# Altium footprint library TerminalBlock_Phoenix.PcbLib: 126 footprints (part 1 of 8)
Each footprint in its own frame and in the unit in brackets; x right, y up, seen from the top. Pads: shape width x height; smd on the part's side, far side on the other; paste and mask are expansions set on the pad; w line width, h text height; cw(c..) or ccw(c..) is an arc to the next point about the centre after c.
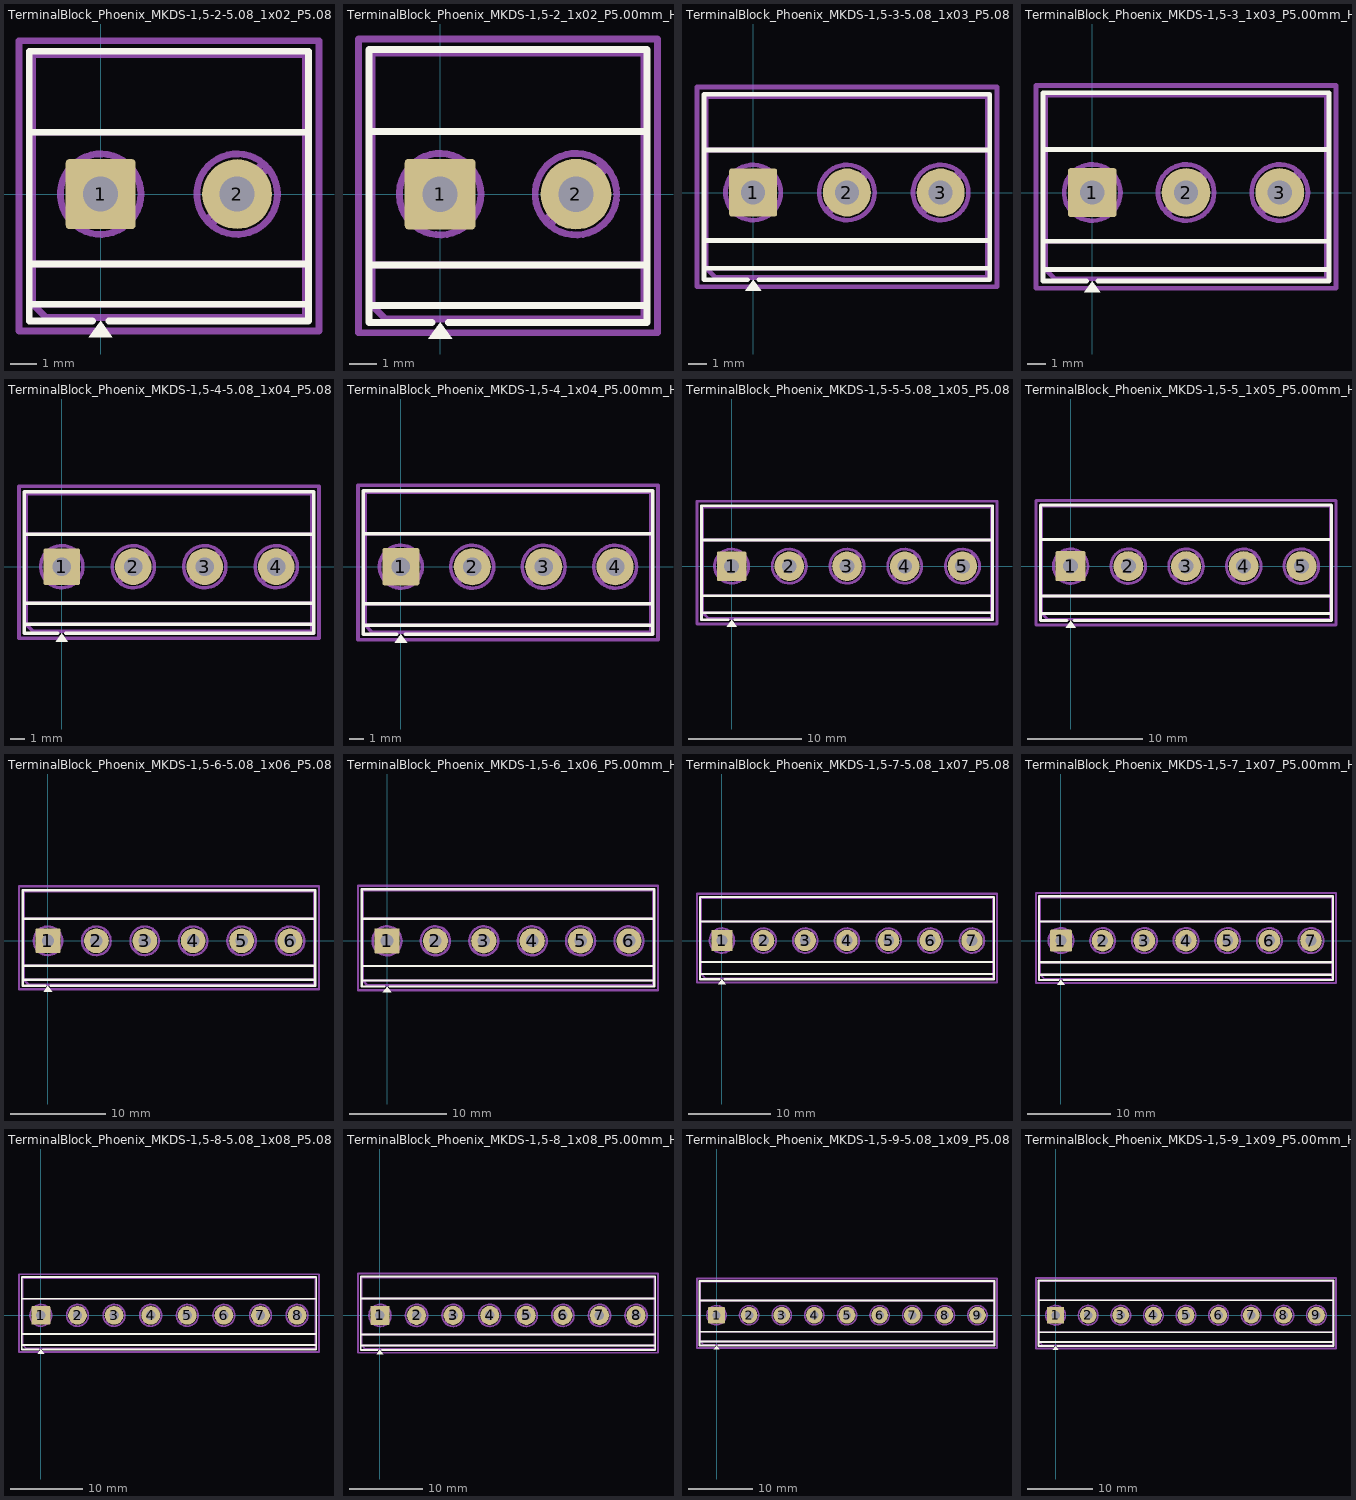
[diagram p0: the footprints below, top view; thin cyan lines are the x and y axes]

## TerminalBlock_Phoenix_MKDS-1,5-2-5.08_1x02_P5.08mm_Horizontal [mm]
pads (2):
  rrect10% 2.6x2.6 hole 1.3: 1(0,0)
  round 2.6 hole 1.3: 2(5.08,0)
F.SilkS:
  region: 0.44,-5.33 -0.44,-5.33 0,-4.72
  lines w0.254: -2.66,-4.1 7.74,-4.1 ; -2.66,-2.6 7.74,-2.6 ; -2.66,2.3 7.74,2.3 ; -0.3,-4.72 -2.66,-4.72 -2.66,5.32 7.74,5.32 7.74,-4.72 0.3,-4.72
F.Fab:
  circle w0.254: c0,0 r1.5
  circle w0.254: c5.08,0 r1.5
  lines w0.254: -2.54,-2.6 7.62,-2.6 ; -2.54,2.3 7.62,2.3 ; -1.138,-0.955 0.955,1.138 ; -0.955,-1.138 1.138,0.955 ; 3.942,-0.955 6.035,1.138 ; 4.125,-1.138 6.218,0.955 ; 7.62,-4.1 -2.54,-4.1 ; -2.54,-4.1 -2.54,5.2 7.62,5.2 7.62,-4.6 -2.04,-4.6 -2.54,-4.1
  text "'.Designator'" at -1.507,-4.04 h1
F.CrtYd:
  lines w0.254: -3.04,-5.1 -3.04,5.71 8.13,5.71 8.13,-5.1 -3.04,-5.1

## TerminalBlock_Phoenix_MKDS-1,5-2_1x02_P5.00mm_Horizontal [mm]
pads (2):
  rrect10% 2.6x2.6 hole 1.3: 1(0,0)
  round 2.6 hole 1.3: 2(5,0)
F.SilkS:
  region: 0.44,-5.33 -0.44,-5.33 0,-4.72
  lines w0.254: -2.62,-4.1 7.62,-4.1 ; -2.62,-2.6 7.62,-2.6 ; -2.62,2.3 7.62,2.3 ; -0.3,-4.72 -2.62,-4.72 -2.62,5.32 7.62,5.32 7.62,-4.72 0.3,-4.72
F.Fab:
  circle w0.254: c0,0 r1.5
  circle w0.254: c5,0 r1.5
  lines w0.254: -2.5,-2.6 7.5,-2.6 ; -2.5,2.3 7.5,2.3 ; -1.138,-0.955 0.955,1.138 ; -0.955,-1.138 1.138,0.955 ; 3.862,-0.955 5.955,1.138 ; 4.045,-1.138 6.138,0.955 ; 7.5,-4.1 -2.5,-4.1 ; -2.5,-4.1 -2.5,5.2 7.5,5.2 7.5,-4.6 -2,-4.6 -2.5,-4.1
  text "'.Designator'" at -1.547,-4.04 h1
F.CrtYd:
  lines w0.254: -3,-5.1 -3,5.71 8,5.71 8,-5.1 -3,-5.1

## TerminalBlock_Phoenix_MKDS-1,5-3-5.08_1x03_P5.08mm_Horizontal [mm]
pads (3):
  rrect10% 2.6x2.6 hole 1.3: 1(0,0)
  round 2.6 hole 1.3: 2(5.08,0) 3(10.16,0)
F.SilkS:
  region: 0.44,-5.33 -0.44,-5.33 0,-4.72
  lines w0.254: -2.66,-4.1 12.82,-4.1 ; -2.66,-2.6 12.82,-2.6 ; -2.66,2.3 12.82,2.3 ; -0.3,-4.72 -2.66,-4.72 -2.66,5.32 12.82,5.32 12.82,-4.72 0.3,-4.72
F.Fab:
  circle w0.254: c0,0 r1.5
  circle w0.254: c5.08,0 r1.5
  circle w0.254: c10.16,0 r1.5
  lines w0.254: -2.54,-2.6 12.7,-2.6 ; -2.54,2.3 12.7,2.3 ; -1.138,-0.955 0.955,1.138 ; -0.955,-1.138 1.138,0.955 ; 3.942,-0.955 6.035,1.138 ; 4.125,-1.138 6.218,0.955 ; 9.022,-0.955 11.115,1.138 ; 9.205,-1.138 11.298,0.955 ; 12.7,-4.1 -2.54,-4.1 ; -2.54,-4.1 -2.54,5.2 12.7,5.2 12.7,-4.6 -2.04,-4.6 -2.54,-4.1
  text "'.Designator'" at 1.033,-4.04 h1
F.CrtYd:
  lines w0.254: -3.04,-5.1 -3.04,5.71 13.21,5.71 13.21,-5.1 -3.04,-5.1

## TerminalBlock_Phoenix_MKDS-1,5-3_1x03_P5.00mm_Horizontal [mm]
pads (3):
  rrect10% 2.6x2.6 hole 1.3: 1(0,0)
  round 2.6 hole 1.3: 2(5,0) 3(10,0)
F.SilkS:
  region: 0.44,-5.33 -0.44,-5.33 0,-4.72
  lines w0.254: -2.62,-4.1 12.62,-4.1 ; -2.62,-2.6 12.62,-2.6 ; -2.62,2.3 12.62,2.3 ; -0.3,-4.72 -2.62,-4.72 -2.62,5.32 12.62,5.32 12.62,-4.72 0.3,-4.72
F.Fab:
  circle w0.254: c0,0 r1.5
  circle w0.254: c5,0 r1.5
  circle w0.254: c10,0 r1.5
  lines w0.254: -2.5,-2.6 12.5,-2.6 ; -2.5,2.3 12.5,2.3 ; -1.138,-0.955 0.955,1.138 ; -0.955,-1.138 1.138,0.955 ; 3.862,-0.955 5.955,1.138 ; 4.045,-1.138 6.138,0.955 ; 8.862,-0.955 10.955,1.138 ; 9.045,-1.138 11.138,0.955 ; 12.5,-4.1 -2.5,-4.1 ; -2.5,-4.1 -2.5,5.2 12.5,5.2 12.5,-4.6 -2,-4.6 -2.5,-4.1
  text "'.Designator'" at 0.953,-4.04 h1
F.CrtYd:
  lines w0.254: -3,-5.1 -3,5.71 13,5.71 13,-5.1 -3,-5.1

## TerminalBlock_Phoenix_MKDS-1,5-4-5.08_1x04_P5.08mm_Horizontal [mm]
pads (4):
  rrect10% 2.6x2.6 hole 1.3: 1(0,0)
  round 2.6 hole 1.3: 2(5.08,0) 3(10.16,0) 4(15.24,0)
F.SilkS:
  region: 0.44,-5.33 -0.44,-5.33 0,-4.72
  lines w0.254: -2.66,-4.1 17.9,-4.1 ; -2.66,-2.6 17.9,-2.6 ; -2.66,2.3 17.9,2.3 ; -0.3,-4.72 -2.66,-4.72 -2.66,5.32 17.9,5.32 17.9,-4.72 0.3,-4.72
F.Fab:
  circle w0.254: c0,0 r1.5
  circle w0.254: c5.08,0 r1.5
  circle w0.254: c10.16,0 r1.5
  circle w0.254: c15.24,0 r1.5
  lines w0.254: -2.54,-2.6 17.78,-2.6 ; -2.54,2.3 17.78,2.3 ; -1.138,-0.955 0.955,1.138 ; -0.955,-1.138 1.138,0.955 ; 3.942,-0.955 6.035,1.138 ; 4.125,-1.138 6.218,0.955 ; 9.022,-0.955 11.115,1.138 ; 9.205,-1.138 11.298,0.955 ; 14.102,-0.955 16.195,1.138 ; 14.285,-1.138 16.378,0.955 ; 17.78,-4.1 -2.54,-4.1 ; -2.54,-4.1 -2.54,5.2 17.78,5.2 17.78,-4.6 -2.04,-4.6 -2.54,-4.1
  text "'.Designator'" at 3.573,-4.04 h1
F.CrtYd:
  lines w0.254: -3.04,-5.1 -3.04,5.71 18.28,5.71 18.28,-5.1 -3.04,-5.1

## TerminalBlock_Phoenix_MKDS-1,5-4_1x04_P5.00mm_Horizontal [mm]
pads (4):
  rrect10% 2.6x2.6 hole 1.3: 1(0,0)
  round 2.6 hole 1.3: 2(5,0) 3(10,0) 4(15,0)
F.SilkS:
  region: 0.44,-5.33 -0.44,-5.33 0,-4.72
  lines w0.254: -2.62,-4.1 17.62,-4.1 ; -2.62,-2.6 17.62,-2.6 ; -2.62,2.3 17.62,2.3 ; -0.3,-4.72 -2.62,-4.72 -2.62,5.32 17.62,5.32 17.62,-4.72 0.3,-4.72
F.Fab:
  circle w0.254: c0,0 r1.5
  circle w0.254: c5,0 r1.5
  circle w0.254: c10,0 r1.5
  circle w0.254: c15,0 r1.5
  lines w0.254: -2.5,-2.6 17.5,-2.6 ; -2.5,2.3 17.5,2.3 ; -1.138,-0.955 0.955,1.138 ; -0.955,-1.138 1.138,0.955 ; 3.862,-0.955 5.955,1.138 ; 4.045,-1.138 6.138,0.955 ; 8.862,-0.955 10.955,1.138 ; 9.045,-1.138 11.138,0.955 ; 13.862,-0.955 15.955,1.138 ; 14.045,-1.138 16.138,0.955 ; 17.5,-4.1 -2.5,-4.1 ; -2.5,-4.1 -2.5,5.2 17.5,5.2 17.5,-4.6 -2,-4.6 -2.5,-4.1
  text "'.Designator'" at 3.453,-4.04 h1
F.CrtYd:
  lines w0.254: -3,-5.1 -3,5.71 18,5.71 18,-5.1 -3,-5.1

## TerminalBlock_Phoenix_MKDS-1,5-5-5.08_1x05_P5.08mm_Horizontal [mm]
pads (5):
  rrect10% 2.6x2.6 hole 1.3: 1(0,0)
  round 2.6 hole 1.3: 2(5.08,0) 3(10.16,0) 4(15.24,0) 5(20.32,0)
F.SilkS:
  region: 0.44,-5.33 -0.44,-5.33 0,-4.72
  lines w0.254: -2.66,-4.1 22.98,-4.1 ; -2.66,-2.6 22.98,-2.6 ; -2.66,2.3 22.98,2.3 ; -0.3,-4.72 -2.66,-4.72 -2.66,5.32 22.98,5.32 22.98,-4.72 0.3,-4.72
F.Fab:
  circle w0.254: c0,0 r1.5
  circle w0.254: c5.08,0 r1.5
  circle w0.254: c10.16,0 r1.5
  circle w0.254: c15.24,0 r1.5
  circle w0.254: c20.32,0 r1.5
  lines w0.254: -2.54,-2.6 22.86,-2.6 ; -2.54,2.3 22.86,2.3 ; -1.138,-0.955 0.955,1.138 ; -0.955,-1.138 1.138,0.955 ; 3.942,-0.955 6.035,1.138 ; 4.125,-1.138 6.218,0.955 ; 9.022,-0.955 11.115,1.138 ; 9.205,-1.138 11.298,0.955 ; 14.102,-0.955 16.195,1.138 ; 14.285,-1.138 16.378,0.955 ; 19.182,-0.955 21.275,1.138 ; 19.365,-1.138 21.458,0.955 ; 22.86,-4.1 -2.54,-4.1 ; -2.54,-4.1 -2.54,5.2 22.86,5.2 22.86,-4.6 -2.04,-4.6 -2.54,-4.1
  text "'.Designator'" at 6.113,-4.04 h1
F.CrtYd:
  lines w0.254: -3.04,-5.1 -3.04,5.71 23.36,5.71 23.36,-5.1 -3.04,-5.1

## TerminalBlock_Phoenix_MKDS-1,5-5_1x05_P5.00mm_Horizontal [mm]
pads (5):
  rrect10% 2.6x2.6 hole 1.3: 1(0,0)
  round 2.6 hole 1.3: 2(5,0) 3(10,0) 4(15,0) 5(20,0)
F.SilkS:
  region: 0.44,-5.33 -0.44,-5.33 0,-4.72
  lines w0.254: -2.62,-4.1 22.62,-4.1 ; -2.62,-2.6 22.62,-2.6 ; -2.62,2.3 22.62,2.3 ; -0.3,-4.72 -2.62,-4.72 -2.62,5.32 22.62,5.32 22.62,-4.72 0.3,-4.72
F.Fab:
  circle w0.254: c0,0 r1.5
  circle w0.254: c5,0 r1.5
  circle w0.254: c10,0 r1.5
  circle w0.254: c15,0 r1.5
  circle w0.254: c20,0 r1.5
  lines w0.254: -2.5,-2.6 22.5,-2.6 ; -2.5,2.3 22.5,2.3 ; -1.138,-0.955 0.955,1.138 ; -0.955,-1.138 1.138,0.955 ; 3.862,-0.955 5.955,1.138 ; 4.045,-1.138 6.138,0.955 ; 8.862,-0.955 10.955,1.138 ; 9.045,-1.138 11.138,0.955 ; 13.862,-0.955 15.955,1.138 ; 14.045,-1.138 16.138,0.955 ; 18.862,-0.955 20.955,1.138 ; 19.045,-1.138 21.138,0.955 ; 22.5,-4.1 -2.5,-4.1 ; -2.5,-4.1 -2.5,5.2 22.5,5.2 22.5,-4.6 -2,-4.6 -2.5,-4.1
  text "'.Designator'" at 5.953,-4.04 h1
F.CrtYd:
  lines w0.254: -3,-5.1 -3,5.71 23,5.71 23,-5.1 -3,-5.1

## TerminalBlock_Phoenix_MKDS-1,5-6-5.08_1x06_P5.08mm_Horizontal [mm]
pads (6):
  rrect10% 2.6x2.6 hole 1.3: 1(0,0)
  round 2.6 hole 1.3: 2(5.08,0) 3(10.16,0) 4(15.24,0) 5(20.32,0) 6(25.4,0)
F.SilkS:
  region: 0.44,-5.33 -0.44,-5.33 0,-4.72
  lines w0.254: -2.66,-4.1 28.06,-4.1 ; -2.66,-2.6 28.06,-2.6 ; -2.66,2.3 28.06,2.3 ; -0.3,-4.72 -2.66,-4.72 -2.66,5.32 28.06,5.32 28.06,-4.72 0.3,-4.72
F.Fab:
  circle w0.254: c0,0 r1.5
  circle w0.254: c5.08,0 r1.5
  circle w0.254: c10.16,0 r1.5
  circle w0.254: c15.24,0 r1.5
  circle w0.254: c20.32,0 r1.5
  circle w0.254: c25.4,0 r1.5
  lines w0.254: -2.54,-2.6 27.94,-2.6 ; -2.54,2.3 27.94,2.3 ; -1.138,-0.955 0.955,1.138 ; -0.955,-1.138 1.138,0.955 ; 3.942,-0.955 6.035,1.138 ; 4.125,-1.138 6.218,0.955 ; 9.022,-0.955 11.115,1.138 ; 9.205,-1.138 11.298,0.955 ; 14.102,-0.955 16.195,1.138 ; 14.285,-1.138 16.378,0.955 ; 19.182,-0.955 21.275,1.138 ; 19.365,-1.138 21.458,0.955 ; 24.262,-0.955 26.355,1.138 ; 24.445,-1.138 26.538,0.955 ; 27.94,-4.1 -2.54,-4.1 ; -2.54,-4.1 -2.54,5.2 27.94,5.2 27.94,-4.6 -2.04,-4.6 -2.54,-4.1
  text "'.Designator'" at 8.653,-4.04 h1
F.CrtYd:
  lines w0.254: -3.04,-5.1 -3.04,5.71 28.44,5.71 28.44,-5.1 -3.04,-5.1

## TerminalBlock_Phoenix_MKDS-1,5-6_1x06_P5.00mm_Horizontal [mm]
pads (6):
  rrect10% 2.6x2.6 hole 1.3: 1(0,0)
  round 2.6 hole 1.3: 2(5,0) 3(10,0) 4(15,0) 5(20,0) 6(25,0)
F.SilkS:
  region: 0.44,-5.33 -0.44,-5.33 0,-4.72
  lines w0.254: -2.62,-4.1 27.62,-4.1 ; -2.62,-2.6 27.62,-2.6 ; -2.62,2.3 27.62,2.3 ; -0.3,-4.72 -2.62,-4.72 -2.62,5.32 27.62,5.32 27.62,-4.72 0.3,-4.72
F.Fab:
  circle w0.254: c0,0 r1.5
  circle w0.254: c5,0 r1.5
  circle w0.254: c10,0 r1.5
  circle w0.254: c15,0 r1.5
  circle w0.254: c20,0 r1.5
  circle w0.254: c25,0 r1.5
  lines w0.254: -2.5,-2.6 27.5,-2.6 ; -2.5,2.3 27.5,2.3 ; -1.138,-0.955 0.955,1.138 ; -0.955,-1.138 1.138,0.955 ; 3.862,-0.955 5.955,1.138 ; 4.045,-1.138 6.138,0.955 ; 8.862,-0.955 10.955,1.138 ; 9.045,-1.138 11.138,0.955 ; 13.862,-0.955 15.955,1.138 ; 14.045,-1.138 16.138,0.955 ; 18.862,-0.955 20.955,1.138 ; 19.045,-1.138 21.138,0.955 ; 23.862,-0.955 25.955,1.138 ; 24.045,-1.138 26.138,0.955 ; 27.5,-4.1 -2.5,-4.1 ; -2.5,-4.1 -2.5,5.2 27.5,5.2 27.5,-4.6 -2,-4.6 -2.5,-4.1
  text "'.Designator'" at 8.453,-4.04 h1
F.CrtYd:
  lines w0.254: -3,-5.1 -3,5.71 28,5.71 28,-5.1 -3,-5.1

## TerminalBlock_Phoenix_MKDS-1,5-7-5.08_1x07_P5.08mm_Horizontal [mm]
pads (7):
  rrect10% 2.6x2.6 hole 1.3: 1(0,0)
  round 2.6 hole 1.3: 2(5.08,0) 3(10.16,0) 4(15.24,0) 5(20.32,0) 6(25.4,0) 7(30.48,0)
F.SilkS:
  region: 0.44,-5.33 -0.44,-5.33 0,-4.72
  lines w0.254: -2.66,-4.1 33.14,-4.1 ; -2.66,-2.6 33.14,-2.6 ; -2.66,2.3 33.14,2.3 ; -0.3,-4.72 -2.66,-4.72 -2.66,5.32 33.14,5.32 33.14,-4.72 0.3,-4.72
F.Fab:
  circle w0.254: c0,0 r1.5
  circle w0.254: c5.08,0 r1.5
  circle w0.254: c10.16,0 r1.5
  circle w0.254: c15.24,0 r1.5
  circle w0.254: c20.32,0 r1.5
  circle w0.254: c25.4,0 r1.5
  circle w0.254: c30.48,0 r1.5
  lines w0.254: -2.54,-2.6 33.02,-2.6 ; -2.54,2.3 33.02,2.3 ; -1.138,-0.955 0.955,1.138 ; -0.955,-1.138 1.138,0.955 ; 3.942,-0.955 6.035,1.138 ; 4.125,-1.138 6.218,0.955 ; 9.022,-0.955 11.115,1.138 ; 9.205,-1.138 11.298,0.955 ; 14.102,-0.955 16.195,1.138 ; 14.285,-1.138 16.378,0.955 ; 19.182,-0.955 21.275,1.138 ; 19.365,-1.138 21.458,0.955 ; 24.262,-0.955 26.355,1.138 ; 24.445,-1.138 26.538,0.955 ; 29.342,-0.955 31.435,1.138 ; 29.525,-1.138 31.618,0.955 ; 33.02,-4.1 -2.54,-4.1 ; -2.54,-4.1 -2.54,5.2 33.02,5.2 33.02,-4.6 -2.04,-4.6 -2.54,-4.1
  text "'.Designator'" at 11.193,-4.04 h1
F.CrtYd:
  lines w0.254: -3.04,-5.1 -3.04,5.71 33.53,5.71 33.53,-5.1 -3.04,-5.1

## TerminalBlock_Phoenix_MKDS-1,5-7_1x07_P5.00mm_Horizontal [mm]
pads (7):
  rrect10% 2.6x2.6 hole 1.3: 1(0,0)
  round 2.6 hole 1.3: 2(5,0) 3(10,0) 4(15,0) 5(20,0) 6(25,0) 7(30,0)
F.SilkS:
  region: 0.44,-5.33 -0.44,-5.33 0,-4.72
  lines w0.254: -2.62,-4.1 32.62,-4.1 ; -2.62,-2.6 32.62,-2.6 ; -2.62,2.3 32.62,2.3 ; -0.3,-4.72 -2.62,-4.72 -2.62,5.32 32.62,5.32 32.62,-4.72 0.3,-4.72
F.Fab:
  circle w0.254: c0,0 r1.5
  circle w0.254: c5,0 r1.5
  circle w0.254: c10,0 r1.5
  circle w0.254: c15,0 r1.5
  circle w0.254: c20,0 r1.5
  circle w0.254: c25,0 r1.5
  circle w0.254: c30,0 r1.5
  lines w0.254: -2.5,-2.6 32.5,-2.6 ; -2.5,2.3 32.5,2.3 ; -1.138,-0.955 0.955,1.138 ; -0.955,-1.138 1.138,0.955 ; 3.862,-0.955 5.955,1.138 ; 4.045,-1.138 6.138,0.955 ; 8.862,-0.955 10.955,1.138 ; 9.045,-1.138 11.138,0.955 ; 13.862,-0.955 15.955,1.138 ; 14.045,-1.138 16.138,0.955 ; 18.862,-0.955 20.955,1.138 ; 19.045,-1.138 21.138,0.955 ; 23.862,-0.955 25.955,1.138 ; 24.045,-1.138 26.138,0.955 ; 28.862,-0.955 30.955,1.138 ; 29.045,-1.138 31.138,0.955 ; 32.5,-4.1 -2.5,-4.1 ; -2.5,-4.1 -2.5,5.2 32.5,5.2 32.5,-4.6 -2,-4.6 -2.5,-4.1
  text "'.Designator'" at 10.953,-4.04 h1
F.CrtYd:
  lines w0.254: -3,-5.1 -3,5.71 33,5.71 33,-5.1 -3,-5.1

## TerminalBlock_Phoenix_MKDS-1,5-8-5.08_1x08_P5.08mm_Horizontal [mm]
pads (8):
  rrect10% 2.6x2.6 hole 1.3: 1(0,0)
  round 2.6 hole 1.3: 2(5.08,0) 3(10.16,0) 4(15.24,0) 5(20.32,0) 6(25.4,0) 7(30.48,0) 8(35.56,0)
F.SilkS:
  region: 0.44,-5.33 -0.44,-5.33 0,-4.72
  lines w0.254: -2.66,-4.1 38.22,-4.1 ; -2.66,-2.6 38.22,-2.6 ; -2.66,2.3 38.22,2.3 ; -0.3,-4.72 -2.66,-4.72 -2.66,5.32 38.22,5.32 38.22,-4.72 0.3,-4.72
F.Fab:
  circle w0.254: c0,0 r1.5
  circle w0.254: c5.08,0 r1.5
  circle w0.254: c10.16,0 r1.5
  circle w0.254: c15.24,0 r1.5
  circle w0.254: c20.32,0 r1.5
  circle w0.254: c25.4,0 r1.5
  circle w0.254: c30.48,0 r1.5
  circle w0.254: c35.56,0 r1.5
  lines w0.254: -2.54,-2.6 38.1,-2.6 ; -2.54,2.3 38.1,2.3 ; -1.138,-0.955 0.955,1.138 ; -0.955,-1.138 1.138,0.955 ; 3.942,-0.955 6.035,1.138 ; 4.125,-1.138 6.218,0.955 ; 9.022,-0.955 11.115,1.138 ; 9.205,-1.138 11.298,0.955 ; 14.102,-0.955 16.195,1.138 ; 14.285,-1.138 16.378,0.955 ; 19.182,-0.955 21.275,1.138 ; 19.365,-1.138 21.458,0.955 ; 24.262,-0.955 26.355,1.138 ; 24.445,-1.138 26.538,0.955 ; 29.342,-0.955 31.435,1.138 ; 29.525,-1.138 31.618,0.955 ; 34.422,-0.955 36.515,1.138 ; 34.605,-1.138 36.698,0.955 ; 38.1,-4.1 -2.54,-4.1 ; -2.54,-4.1 -2.54,5.2 38.1,5.2 38.1,-4.6 -2.04,-4.6 -2.54,-4.1
  text "'.Designator'" at 13.733,-4.04 h1
F.CrtYd:
  lines w0.254: -3.04,-5.1 -3.04,5.71 38.6,5.71 38.6,-5.1 -3.04,-5.1

## TerminalBlock_Phoenix_MKDS-1,5-8_1x08_P5.00mm_Horizontal [mm]
pads (8):
  rrect10% 2.6x2.6 hole 1.3: 1(0,0)
  round 2.6 hole 1.3: 2(5,0) 3(10,0) 4(15,0) 5(20,0) 6(25,0) 7(30,0) 8(35,0)
F.SilkS:
  region: 0.44,-5.33 -0.44,-5.33 0,-4.72
  lines w0.254: -2.62,-4.1 37.62,-4.1 ; -2.62,-2.6 37.62,-2.6 ; -2.62,2.3 37.62,2.3 ; -0.3,-4.72 -2.62,-4.72 -2.62,5.32 37.62,5.32 37.62,-4.72 0.3,-4.72
F.Fab:
  circle w0.254: c0,0 r1.5
  circle w0.254: c5,0 r1.5
  circle w0.254: c10,0 r1.5
  circle w0.254: c15,0 r1.5
  circle w0.254: c20,0 r1.5
  circle w0.254: c25,0 r1.5
  circle w0.254: c30,0 r1.5
  circle w0.254: c35,0 r1.5
  lines w0.254: -2.5,-2.6 37.5,-2.6 ; -2.5,2.3 37.5,2.3 ; -1.138,-0.955 0.955,1.138 ; -0.955,-1.138 1.138,0.955 ; 3.862,-0.955 5.955,1.138 ; 4.045,-1.138 6.138,0.955 ; 8.862,-0.955 10.955,1.138 ; 9.045,-1.138 11.138,0.955 ; 13.862,-0.955 15.955,1.138 ; 14.045,-1.138 16.138,0.955 ; 18.862,-0.955 20.955,1.138 ; 19.045,-1.138 21.138,0.955 ; 23.862,-0.955 25.955,1.138 ; 24.045,-1.138 26.138,0.955 ; 28.862,-0.955 30.955,1.138 ; 29.045,-1.138 31.138,0.955 ; 33.862,-0.955 35.955,1.138 ; 34.045,-1.138 36.138,0.955 ; 37.5,-4.1 -2.5,-4.1 ; -2.5,-4.1 -2.5,5.2 37.5,5.2 37.5,-4.6 -2,-4.6 -2.5,-4.1
  text "'.Designator'" at 13.453,-4.04 h1
F.CrtYd:
  lines w0.254: -3,-5.1 -3,5.71 38,5.71 38,-5.1 -3,-5.1

## TerminalBlock_Phoenix_MKDS-1,5-9-5.08_1x09_P5.08mm_Horizontal [mm]
pads (9):
  rrect10% 2.6x2.6 hole 1.3: 1(0,0)
  round 2.6 hole 1.3: 2(5.08,0) 3(10.16,0) 4(15.24,0) 5(20.32,0) 6(25.4,0) 7(30.48,0) 8(35.56,0) 9(40.64,0)
F.SilkS:
  region: 0.44,-5.33 -0.44,-5.33 0,-4.72
  lines w0.254: -2.66,-4.1 43.3,-4.1 ; -2.66,-2.6 43.3,-2.6 ; -2.66,2.3 43.3,2.3 ; -0.3,-4.72 -2.66,-4.72 -2.66,5.32 43.3,5.32 43.3,-4.72 0.3,-4.72
F.Fab:
  circle w0.254: c0,0 r1.5
  circle w0.254: c5.08,0 r1.5
  circle w0.254: c10.16,0 r1.5
  circle w0.254: c15.24,0 r1.5
  circle w0.254: c20.32,0 r1.5
  circle w0.254: c25.4,0 r1.5
  circle w0.254: c30.48,0 r1.5
  circle w0.254: c35.56,0 r1.5
  circle w0.254: c40.64,0 r1.5
  lines w0.254: -2.54,-2.6 43.18,-2.6 ; -2.54,2.3 43.18,2.3 ; -1.138,-0.955 0.955,1.138 ; -0.955,-1.138 1.138,0.955 ; 3.942,-0.955 6.035,1.138 ; 4.125,-1.138 6.218,0.955 ; 9.022,-0.955 11.115,1.138 ; 9.205,-1.138 11.298,0.955 ; 14.102,-0.955 16.195,1.138 ; 14.285,-1.138 16.378,0.955 ; 19.182,-0.955 21.275,1.138 ; 19.365,-1.138 21.458,0.955 ; 24.262,-0.955 26.355,1.138 ; 24.445,-1.138 26.538,0.955 ; 29.342,-0.955 31.435,1.138 ; 29.525,-1.138 31.618,0.955 ; 34.422,-0.955 36.515,1.138 ; 34.605,-1.138 36.698,0.955 ; 39.502,-0.955 41.595,1.138 ; 39.685,-1.138 41.778,0.955 ; 43.18,-4.1 -2.54,-4.1 ; -2.54,-4.1 -2.54,5.2 43.18,5.2 43.18,-4.6 -2.04,-4.6 -2.54,-4.1
  text "'.Designator'" at 16.273,-4.04 h1
F.CrtYd:
  lines w0.254: -3.04,-5.1 -3.04,5.71 43.68,5.71 43.68,-5.1 -3.04,-5.1

## TerminalBlock_Phoenix_MKDS-1,5-9_1x09_P5.00mm_Horizontal [mm]
pads (9):
  rrect10% 2.6x2.6 hole 1.3: 1(0,0)
  round 2.6 hole 1.3: 2(5,0) 3(10,0) 4(15,0) 5(20,0) 6(25,0) 7(30,0) 8(35,0) 9(40,0)
F.SilkS:
  region: 0.44,-5.33 -0.44,-5.33 0,-4.72
  lines w0.254: -2.62,-4.1 42.62,-4.1 ; -2.62,-2.6 42.62,-2.6 ; -2.62,2.3 42.62,2.3 ; -0.3,-4.72 -2.62,-4.72 -2.62,5.32 42.62,5.32 42.62,-4.72 0.3,-4.72
F.Fab:
  circle w0.254: c0,0 r1.5
  circle w0.254: c5,0 r1.5
  circle w0.254: c10,0 r1.5
  circle w0.254: c15,0 r1.5
  circle w0.254: c20,0 r1.5
  circle w0.254: c25,0 r1.5
  circle w0.254: c30,0 r1.5
  circle w0.254: c35,0 r1.5
  circle w0.254: c40,0 r1.5
  lines w0.254: -2.5,-2.6 42.5,-2.6 ; -2.5,2.3 42.5,2.3 ; -1.138,-0.955 0.955,1.138 ; -0.955,-1.138 1.138,0.955 ; 3.862,-0.955 5.955,1.138 ; 4.045,-1.138 6.138,0.955 ; 8.862,-0.955 10.955,1.138 ; 9.045,-1.138 11.138,0.955 ; 13.862,-0.955 15.955,1.138 ; 14.045,-1.138 16.138,0.955 ; 18.862,-0.955 20.955,1.138 ; 19.045,-1.138 21.138,0.955 ; 23.862,-0.955 25.955,1.138 ; 24.045,-1.138 26.138,0.955 ; 28.862,-0.955 30.955,1.138 ; 29.045,-1.138 31.138,0.955 ; 33.862,-0.955 35.955,1.138 ; 34.045,-1.138 36.138,0.955 ; 38.862,-0.955 40.955,1.138 ; 39.045,-1.138 41.138,0.955 ; 42.5,-4.1 -2.5,-4.1 ; -2.5,-4.1 -2.5,5.2 42.5,5.2 42.5,-4.6 -2,-4.6 -2.5,-4.1
  text "'.Designator'" at 15.953,-4.04 h1
F.CrtYd:
  lines w0.254: -3,-5.1 -3,5.71 43,5.71 43,-5.1 -3,-5.1